# Altium schematic symbol library STIEC45-30AS.SchLib: 1 symbol
Pins are listed as number, name and electrical type; pins without a type are passive.

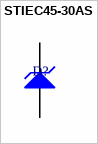
[diagram p0: symbol STIEC45-30AS]

## STIEC45-30AS
designator D?  (value not drawn)
PartNumber: STIEC45-30AS; Manufacturer: STMicroelectronics; PartDescription: TVS DIODE 30VWM 55VC SMC; Supplier 1: Digi-Key; Package Type: SMC; Supplier Part Number 1: 497-10395-1-ND
footprint SMC_VER
pins: 1 K, 2 A